# EAGLE library part MAX6967AEE (library max696x)
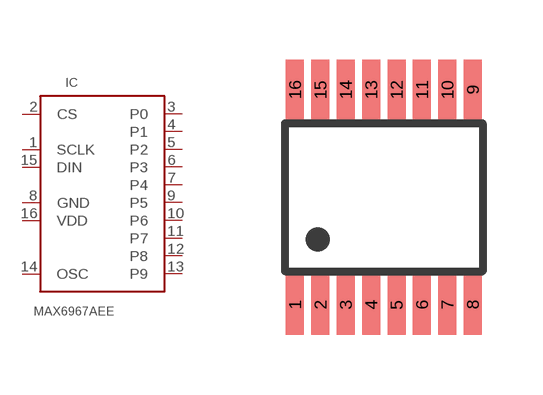
[diagram p1: symbol with the pads of QSOP16; footprint QSOP16]

Designator prefix IC

## MAX6967AEE  [QSOP16]
1  SCLK  in
2  CS  in
3  P0  out
4  P1  out
5  P2  out
6  P3  out
7  P4  out
8  GND
9  P5  out
10  P6  out
11  P7  out
12  P8  out
13  P9  out
14  OSC  in
15  DIN  in
16  VDD

## Footprint QSOP16 (pad centres in mm)
smd 0.45 x 1.5: 1 -2.223,-2.69; 2 -1.587,-2.69; 3 -0.953,-2.69; 4 -0.318,-2.69; 5 0.318,-2.69; 6 0.953,-2.69; 7 1.587,-2.69; 8 2.223,-2.69; 9 2.223,2.69; 10 1.587,2.69; 11 0.953,2.69; 12 0.318,2.69; 13 -0.318,2.69; 14 -0.953,2.69; 15 -1.587,2.69; 16 -2.223,2.69